# EAGLE library part SS112D01 (library SS112D01)
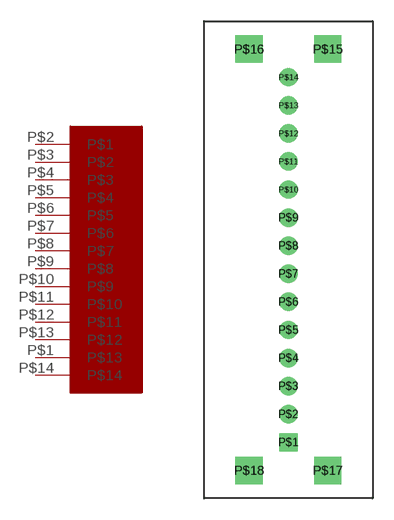
[diagram p0: symbol with the pads of SS112D01; footprint SS112D01]

Designator prefix -

## SS112D01  [SS112D01]
P$1  P$13
P$2  P$1
P$3  P$2
P$4  P$3
P$5  P$4
P$6  P$5
P$7  P$6
P$8  P$7
P$9  P$8
P$10  P$9
P$11  P$10
P$12  P$11
P$13  P$12
P$14  P$14

## Footprint SS112D01 (pad centres in mm)
drill 0.8 square: P$1 6.35,3.81
drill 0.8: P$2 6.35,5.81; P$3 6.35,7.81; P$4 6.35,9.81; P$5 6.35,11.81; P$6 6.35,13.81; P$7 6.35,15.81; P$8 6.35,17.81; P$9 6.35,19.81; P$10 6.35,21.81; P$11 6.35,23.81; P$12 6.35,25.81; P$13 6.35,27.81; P$14 6.35,29.81
drill 1.3 square: P$15 9.15,31.81; P$16 3.55,31.81; P$17 9.15,1.81; P$18 3.55,1.81